# Altium schematic symbol library Schlib1.SchLib: 9 symbols
Pins are listed as number, name and electrical type; pins without a type are passive.

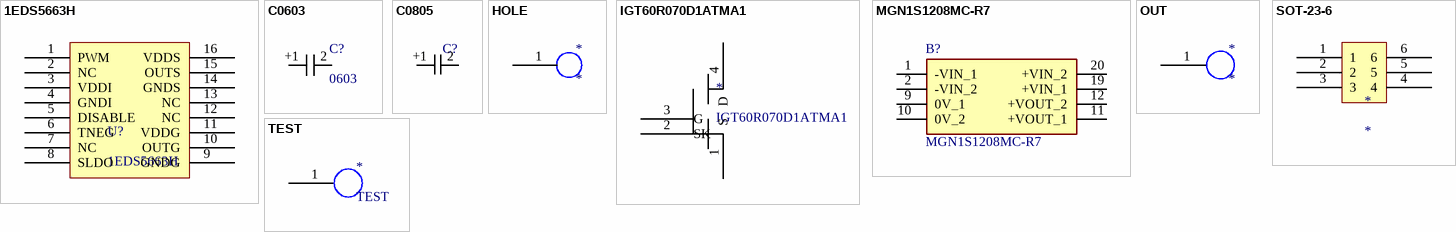
[diagram p0: symbols 1EDS5663H to TEST]

## 1EDS5663H
designator U?
footprint 1EDS5663H
pins: 1 PWM, 2 NC, 3 VDDI, 4 GNDI, 5 DISABLE, 6 TNEG, 7 NC, 8 SLDO, 9 GNDG, 10 OUTG, 11 VDDG, 12 NC, 13 NC, 14 GNDS, 15 OUTS, 16 VDDS

## C0603
designator C?, comment 0603
footprint 0603
pins: 2, +1

## C0805
designator C?
footprint 0805
pins: 2, +1

## HOLE
designator *
footprint HOLE
pins: 1

## IGT60R070D1ATMA1
designator *
footprint IGT60R070D1ATMA1
pins: 1 S, 2 SK, 3 G, 4 D

## MGN1S1208MC-R7
designator B?
Isolated Module DC DC Converter 1 Output 8V 125mA 10.8V - 13.2V Input; Manufacturer_Name: Murata Electronics; Geometry.Height: 4.7mm; Manufacturer_Part_Number: MGN1S1208MC-R7; Mouser Part Number: *; Mouser Price/Stock: *; Arrow Part Number: *; Arrow Price/Stock: *; Datasheet Link: https://www.murata.com/products/productdata/8819021971486/KDC-MGN1.pdf
footprint MGN1S1208MCR7
footprint MGN1S1208MCR7
pins: 1 -VIN_1, 2 -VIN_2, 9 0V_1, 10 0V_2, 11 +VOUT_1, 12 +VOUT_2, 19 +VIN_1, 20 +VIN_2

## OUT
designator *
footprint OUT
pins: 1

## SOT-23-6
designator *
footprint SOT-23-6 (Small Outline Transistor, 6 Pins, Pin Pitch  0.95mm)
pins: 1, 2, 3, 4, 5, 6

## TEST
designator *
footprint TESTPOINT
pins: 1